# EAGLE library part AS4C128M16D3B-12BCN (library custom)
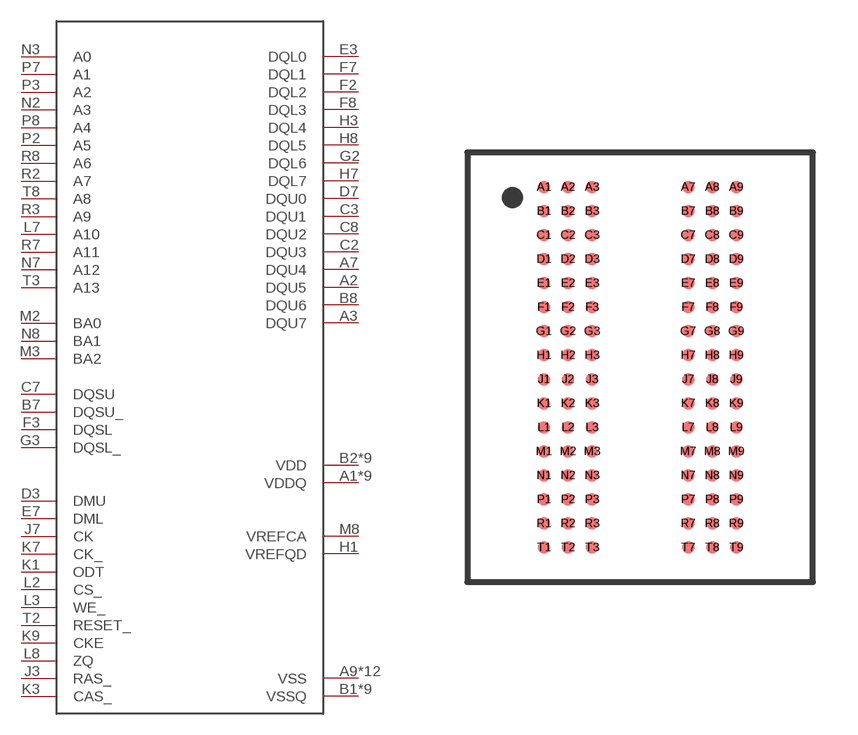
[diagram p0: symbol with the pads of FBGA96-6X16; footprint FBGA96-6X16]

Designator prefix -

## AS4C128M16D3B-12BCN  [FBGA96-6X16]
A1  VDDQ
A2  DQU5
A3  DQU7
A7  DQU4
A8  VDDQ
A9  VSS
B1  VSSQ
B2  VDD
B3  VSS
B7  DQSU_
B8  DQU6
B9  VSSQ
C1  VDDQ
C2  DQU3
C3  DQU1
C7  DQSU
C8  DQU2
C9  VDDQ
D1  VSSQ
D2  VDDQ
D3  DMU
D7  DQU0
D8  VSSQ
D9  VDD
E1  VSS
E2  VSSQ
E3  DQL0
E7  DML
E8  VSSQ
E9  VDDQ
F1  VDDQ
F2  DQL2
F3  DQSL
F7  DQL1
F8  DQL3
F9  VSSQ
G1  VSSQ
G2  DQL6
G3  DQSL_
G7  VDD
G8  VSS
G9  VSSQ
H1  VREFQD
H2  VDDQ
H3  DQL4
H7  DQL7
H8  DQL5
H9  VDDQ
J2  VSS
J3  RAS_
J7  CK
J8  VSS
K1  ODT
K2  VDD
K3  CAS_
K7  CK_
K8  VDD
K9  CKE
L2  CS_
L3  WE_
L7  A10
L8  ZQ
M1  VSS
M2  BA0
M3  BA2
M8  VREFCA
M9  VSS
N1  VDD
N2  A3
N3  A0
N7  A12
N8  BA1
N9  VDD
P1  VSS
P2  A5
P3  A2
P7  A1
P8  A4
P9  VSS
R1  VDD
R2  A7
R3  A9
R7  A11
R8  A6
R9  VDD
T1  VSS
T2  RESET_
T3  A13
T8  A8
T9  VSS

## Footprint FBGA96-6X16 (pad centres in mm)
FBGA90 (6X15) 0.80 mm pitch
smd 0.42 x 0.42: A1 -3.2,5.6; A2 -2.4,5.6; A3 -1.6,5.6; A7 1.6,5.6; A8 2.4,5.6; A9 3.2,5.6; B1 -3.2,4.8; B2 -2.4,4.8; B3 -1.6,4.8; B7 1.6,4.8; B8 2.4,4.8; B9 3.2,4.8; C1 -3.2,4; C2 -2.4,4; C3 -1.6,4; C7 1.6,4; C8 2.4,4; C9 3.2,4; D1 -3.2,3.2; D2 -2.4,3.2; D3 -1.6,3.2; D7 1.6,3.2; D8 2.4,3.2; D9 3.2,3.2; E1 -3.2,2.4; E2 -2.4,2.4; E3 -1.6,2.4; E7 1.6,2.4; E8 2.4,2.4; E9 3.2,2.4; F1 -3.2,1.6; F2 -2.4,1.6; F3 -1.6,1.6; F7 1.6,1.6; F8 2.4,1.6; F9 3.2,1.6; G1 -3.2,0.8; G2 -2.4,0.8; G3 -1.6,0.8; G7 1.6,0.8; G8 2.4,0.8; G9 3.2,0.8; H1 -3.2,0; H2 -2.4,0; H3 -1.6,0; H7 1.6,0; H8 2.4,0; H9 3.2,0; J1 -3.2,-0.8; J2 -2.4,-0.8; J3 -1.6,-0.8; J7 1.6,-0.8; J8 2.4,-0.8; J9 3.2,-0.8; K1 -3.2,-1.6; K2 -2.4,-1.6; K3 -1.6,-1.6; K7 1.6,-1.6; K8 2.4,-1.6; K9 3.2,-1.6; L1 -3.2,-2.4; L2 -2.4,-2.4; L3 -1.6,-2.4; L7 1.6,-2.4; L8 2.4,-2.4; L9 3.2,-2.4; M1 -3.2,-3.2; M2 -2.4,-3.2; M3 -1.6,-3.2; M7 1.6,-3.2; M8 2.4,-3.2; M9 3.2,-3.2; N1 -3.2,-4; N2 -2.4,-4; N3 -1.6,-4; N7 1.6,-4; N8 2.4,-4; N9 3.2,-4; P1 -3.2,-4.8; P2 -2.4,-4.8; P3 -1.6,-4.8; P7 1.6,-4.8; P8 2.4,-4.8; P9 3.2,-4.8; R1 -3.2,-5.6; R2 -2.4,-5.6; R3 -1.6,-5.6; R7 1.6,-5.6; R8 2.4,-5.6; R9 3.2,-5.6; T1 -3.2,-6.4; T2 -2.4,-6.4; T3 -1.6,-6.4; T7 1.6,-6.4; T8 2.4,-6.4; T9 3.2,-6.4